# EAGLE library part PIC32MX250F128D-I_PT (library PIC32MX270)
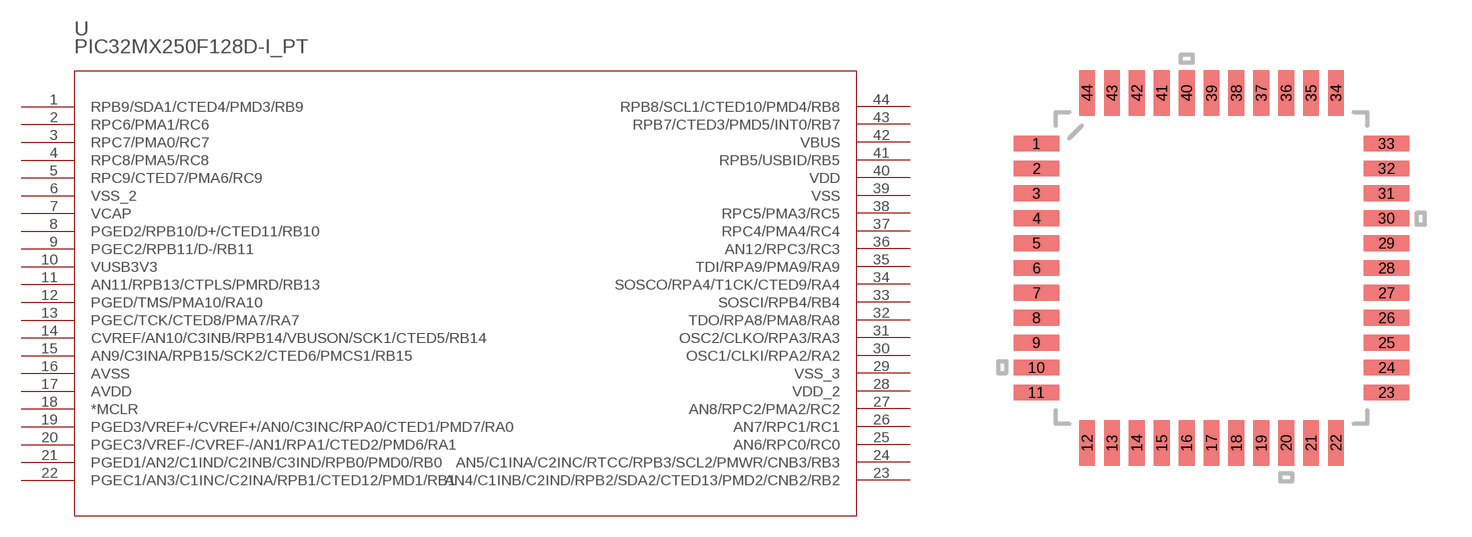
[diagram p1: symbol with the pads of QFP44_10X10MC; footprint QFP44_10X10MC]

Designator prefix U

## PIC32MX250F128D-I_PT  [QFP44_10X10MC]
1  RPB9/SDA1/CTED4/PMD3/RB9
2  RPC6/PMA1/RC6
3  RPC7/PMA0/RC7
4  RPC8/PMA5/RC8
5  RPC9/CTED7/PMA6/RC9
6  VSS_2  pwr
7  VCAP  pwr
8  PGED2/RPB10/D+/CTED11/RB10
9  PGEC2/RPB11/D-/RB11
10  VUSB3V3
11  AN11/RPB13/CTPLS/PMRD/RB13
12  PGED/TMS/PMA10/RA10
13  PGEC/TCK/CTED8/PMA7/RA7
14  CVREF/AN10/C3INB/RPB14/VBUSON/SCK1/CTED5/RB14
15  AN9/C3INA/RPB15/SCK2/CTED6/PMCS1/RB15
16  AVSS  pwr
17  AVDD  pwr
18  *MCLR  in
19  PGED3/VREF+/CVREF+/AN0/C3INC/RPA0/CTED1/PMD7/RA0
20  PGEC3/VREF-/CVREF-/AN1/RPA1/CTED2/PMD6/RA1
21  PGED1/AN2/C1IND/C2INB/C3IND/RPB0/PMD0/RB0
22  PGEC1/AN3/C1INC/C2INA/RPB1/CTED12/PMD1/RB1
23  AN4/C1INB/C2IND/RPB2/SDA2/CTED13/PMD2/CNB2/RB2
24  AN5/C1INA/C2INC/RTCC/RPB3/SCL2/PMWR/CNB3/RB3
25  AN6/RPC0/RC0
26  AN7/RPC1/RC1
27  AN8/RPC2/PMA2/RC2
28  VDD_2  pwr
29  VSS_3  pwr
30  OSC1/CLKI/RPA2/RA2
31  OSC2/CLKO/RPA3/RA3
32  TDO/RPA8/PMA8/RA8
33  SOSCI/RPB4/RB4
34  SOSCO/RPA4/T1CK/CTED9/RA4
35  TDI/RPA9/PMA9/RA9
36  AN12/RPC3/RC3
37  RPC4/PMA4/RC4
38  RPC5/PMA3/RC5
39  VSS  pwr
40  VDD  pwr
41  RPB5/USBID/RB5
42  VBUS  pwr
43  RPB7/CTED3/PMD5/INT0/RB7
44  RPB8/SCL1/CTED10/PMD4/RB8

## Footprint QFP44_10X10MC (pad centres in mm)
smd 1.473 x 0.508: 1 -5.625,4; 2 -5.625,3.2; 3 -5.625,2.4; 4 -5.625,1.6; 5 -5.625,0.8; 6 -5.625,0; 7 -5.625,-0.8; 8 -5.625,-1.6; 9 -5.625,-2.4; 10 -5.625,-3.2; 11 -5.625,-4; 23 5.625,-4; 24 5.625,-3.2; 25 5.625,-2.4; 26 5.625,-1.6; 27 5.625,-0.8; 28 5.625,0; 29 5.625,0.8; 30 5.625,1.6; 31 5.625,2.4; 32 5.625,3.2; 33 5.625,4
smd 0.508 x 1.473: 12 -4,-5.625; 13 -3.2,-5.625; 14 -2.4,-5.625; 15 -1.6,-5.625; 16 -0.8,-5.625; 17 0,-5.625; 18 0.8,-5.625; 19 1.6,-5.625; 20 2.4,-5.625; 21 3.2,-5.625; 22 4,-5.625; 34 4,5.625; 35 3.2,5.625; 36 2.4,5.625; 37 1.6,5.625; 38 0.8,5.625; 39 0,5.625; 40 -0.8,5.625; 41 -1.6,5.625; 42 -2.4,5.625; 43 -3.2,5.625; 44 -4,5.625